# EAGLE library part AP7312 (library STAC)
AP7312 LDO AP7312-3333W6-7 Dual 150mA 3.3V LDO https://www.diodes.com/assets/Datasheets/AP7312.pdf
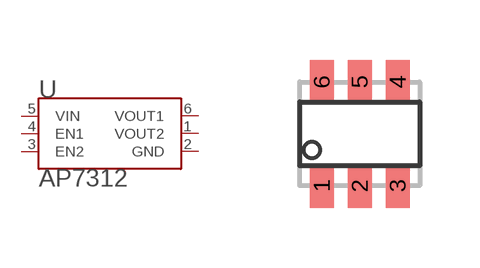
[diagram p1: symbol with the pads of SOT26; footprint SOT26]

Designator prefix U

## AP7312  [SOT26]
1  VOUT2
2  GND
3  EN2
4  EN1
5  VIN
6  VOUT1

## Footprint SOT26 (pad centres in mm)
smd 0.6 x 1.1: 1 -0.95,-1.3; 2 0,-1.3; 3 0.95,-1.3; 4 0.95,1.3; 5 0,1.3; 6 -0.95,1.3